# Altium schematic symbol library Schematic_Library.SchLib: 59 symbols
Pins are listed as number, name and electrical type; pins without a type are passive.

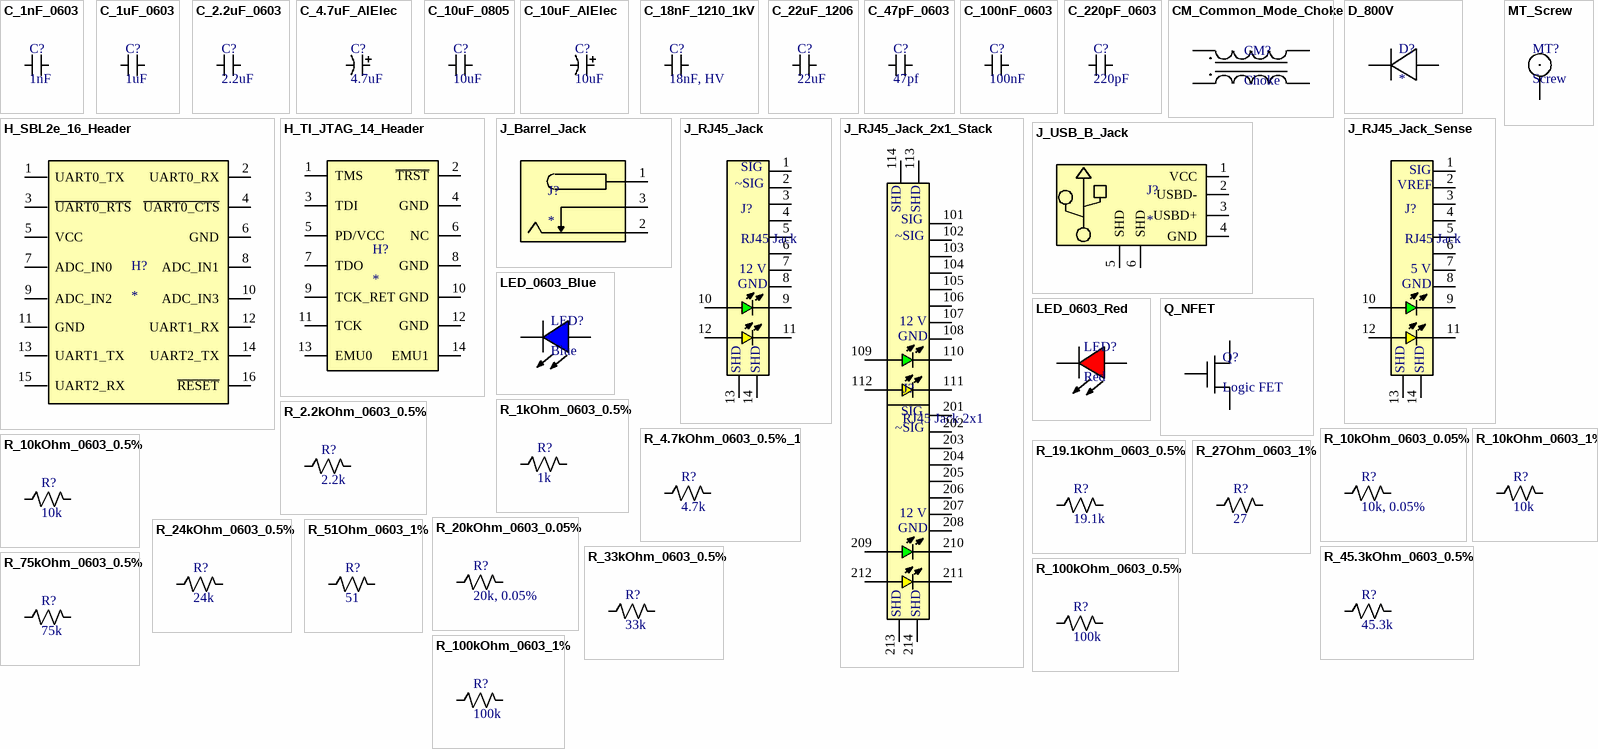
[diagram p0: symbols C_1nF_0603 to R_100kOhm_0603_1%]

## C_1nF_0603
designator C?, comment 1nF
Capacitor SMD MLCC 1 nF 0603
footprint 0603_CAP (SMD 0603 Capacitor Footprint)
pins: 1, 2

## C_1uF_0603
designator C?, comment 1uF
Capacitor SMD MLCC 1 uF 0603 25 V
footprint 0603_CAP (SMD 0603 Capacitor Footprint)
pins: 1, 2

## C_2.2uF_0603
designator C?, comment 2.2uF
Capacitor SMD MLCC 2.2 uF 0603
footprint 0603_CAP (SMD 0603 Capacitor Footprint)
pins: 1, 2

## C_4.7uF_AlElec
designator C?, comment 4.7uF
Capacitor SMD Aluminum Electrolytic 4.7 uF
footprint ALUM_CAP (25 V Aluminum Electrolytic Cap)
pins: 1, 2

## C_10uF_0805
designator C?, comment 10uF
Capacitor SMD MLCC 10 uF 0805
footprint 0805_CAP (SMD 0805 Capacitor Footprint)
pins: 1, 2

## C_10uF_AlElec
designator C?, comment 10uF
Capacitor SMD Aluminum Electrolytic 10 uF
footprint ALUM_CAP (25 V Aluminum Electrolytic Cap)
pins: 1, 2

## C_18nF_1210_1kV
designator C?, comment 18nF, HV
Capacitor SMD MLCC C0G 18 nF 1 kV 1210
footprint 1210_CAP (1210 SMD Capacitor Footprint)
pins: 1, 2

## C_22uF_1206
designator C?, comment 22uF
Capacitor SMD MLCC 22 uF 25 V 1206
footprint 1206_CAP (1206 SMD Capacitor Footprint)
pins: 1, 2

## C_47pF_0603
designator C?, comment 47pf
Capacitor SMD MLCC 47 pF 0603
footprint 0603_CAP (SMD 0603 Capacitor Footprint)
pins: 1, 2

## C_100nF_0603
designator C?, comment 100nF
Capacitor SMD MLCC 100 nF 0603
footprint 0603_CAP (SMD 0603 Capacitor Footprint)
pins: 1, 2

## C_220pF_0603
designator C?, comment 220pF
Capacitor SMD MLCC 220 pF 0603 5%
footprint 0603_CAP (SMD 0603 Capacitor Footprint)
pins: 1, 2

## CM_Common_Mode_Choke
designator CM?, comment Choke
Common Mode Choke
footprint CHOKE (Common Mode Choke Footprint Horizontal 4)
pins: 1 In1, 2 Out1, 3 Out2, 4 In2

## D_800V
designator D?
Diode 800 V 8 A diode
footprint DIODE (Power Diode Footprint TO-252-2)
pins: 1, 2

## H_SBL2e_16_Header
designator H?
16-pin SBL2e Netburner Header
footprint 16PIN_HEADER (16-Pin SBL2e NetBurner Header Footprint)
pins: 1 UART0_TX, 2 UART0_RX, 3 ~{UART0_RTS}, 4 ~{UART0_CTS}, 5 VCC, 6 GND, 7 ADC_IN0, 8 ADC_IN1, 9 ADC_IN2, 10 ADC_IN3, 11 GND, 12 UART1_RX, 13 UART1_TX, 14 UART2_TX, 15 UART2_RX, 16 ~{RESET}

## H_TI_JTAG_14_Header
designator H?
14-pin TI JTAG Header
footprint 14PIN_HEADER (14-Pin TI JTAG Header Footprint)
pins: 1 TMS, 2 ~{TRST}, 3 TDI, 4 GND, 5 PD/VCC, 6 NC, 7 TDO, 8 GND, 9 TCK_RET, 10 GND, 11 TCK, 12 GND, 13 EMU0, 14 EMU1

## J_Barrel_Jack
designator J?
Jack 12 V Barrel Jack Power Plug
footprint PWR_JACK (Barrel Jack Footprint)
pins: 1 GND, 2 PWR_JACK, 3 PWR_BAT

## J_RJ45_Jack
designator J?, comment RJ45 Jack
Jack RJ-45 8-pin
footprint RJ45_JACK (RJ45 Jack Footprint)
pins: 1 Sig1, 2 Sig2, 3 NC, 4 NC, 5 NC, 6 NC, 7 12 V, 8 GND, 9   , 10   , 11  , 12  , 13 SHD1, 14 SHD2
text: SIG; ~SIG; SHD

## J_RJ45_Jack_2x1_Stack
designator J?, comment RJ45 Jack 2x1
Jack RJ-45 8-pin 2x1 Stack
footprint RJ45_JACK_STACKED (RJ45 Jack 2x1 Stacked Footprint)
pins: 101 Sig1, 102 Sig2, 103 NC, 104 NC, 105 NC, 106 NC, 107 12 V, 108 GND, 109   , 110   , 111  , 112  , 113 SHD1, 114 SHD2, 201 Sig1, 202 Sig2, 203 NC, 204 NC, 205 NC, 206 NC, 207 12 V, 208 GND, 209   , 210   , 211  , 212  , 213 SHD1, 214 SHD2
text: SHD; SIG; ~SIG

## J_RJ45_Jack_Sense
designator J?, comment RJ45 Jack
Jack RJ-45 8-pin (for current sensing)
footprint RJ45_JACK (RJ45 Jack Footprint)
pins: 1 Sig1, 2 VREF, 3 NC, 4 NC, 5 NC, 6 NC, 7 12 V, 8 GND, 9   , 10   , 11  , 12  , 13 SHD1, 14 SHD2
text: SIG; 5 V; SHD

## J_USB_B_Jack
designator J?
Jack USB Type B
footprint USB_B_JACK (USB Type B Jack Footprint)
pins: 1 VCC, 2 USBD-, 3 USBD+, 4 GND, 5 SHD, 6 SHD

## LED_0603_Blue
designator LED?, comment Blue
LED SMD 0603 Blue
footprint 0603_LED (SMD 0603 LED Footprint)
pins: 1, 2

## LED_0603_Red
designator LED?, comment Red
LED SMD 0603 Red
footprint 0603_LED (SMD 0603 LED Footprint)
pins: 1, 2

## MT_Screw
designator MT?, comment Screw
Screw Mount for connecting board to resistors
footprint MOUNT (Screw Mount Footprint)
pins: 1

## Q_NFET
designator Q?, comment Logic FET
N-Channel Logic FET SOT23-3
footprint SOT23 (SOT23 Footprint)
pins: 1 D, 2 G, 3 S

## R_1kOhm_0603_0.5%
designator R?, comment 1k
Resistor 1 kOhm 0603 0.5%
footprint 0603_RES (SMD 0603 Resistor Footprint)
pins: 1, 2

## R_2.2kOhm_0603_0.5%
designator R?, comment 2.2k
Resistor 2.2 kOhm 0603 0.5%
footprint 0603_RES (SMD 0603 Resistor Footprint)
pins: 1, 2

## R_4.7kOhm_0603_0.5%_1
designator R?, comment 4.7k
Resistor 4.7k kOhm 0603 0.5%
footprint 0603_RES (SMD 0603 Resistor Footprint)
pins: 1, 2

## R_10kOhm_0603_0.05%
designator R?, comment 10k, 0.05%
Resistor 10 kOhm 0603 0.05%
footprint 0603_RES (SMD 0603 Resistor Footprint)
pins: 1, 2

## R_10kOhm_0603_0.5%
designator R?, comment 10k
Resistor 10 kOhm 0603 0.5%
footprint 0603_RES (SMD 0603 Resistor Footprint)
pins: 1, 2

## R_10kOhm_0603_1%
designator R?, comment 10k
Resistor 10 kOhm 0603 1%
footprint 0603_RES (SMD 0603 Resistor Footprint)
pins: 1, 2

## R_19.1kOhm_0603_0.5%
designator R?, comment 19.1k
Resistor 19.1 kOhm 0603 0.5%
footprint 0603_RES (SMD 0603 Resistor Footprint)
pins: 1, 2

## R_20kOhm_0603_0.05%
designator R?, comment 20k, 0.05%
Resistor 20 kOhm 0603 0.05%
footprint 0603_RES (SMD 0603 Resistor Footprint)
pins: 1, 2

## R_24kOhm_0603_0.5%
designator R?, comment 24k
Resistor 24 kOhm 0603 0.5%
footprint 0603_RES (SMD 0603 Resistor Footprint)
pins: 1, 2

## R_27Ohm_0603_1%
designator R?, comment 27
Resistor 27 Ohm 0603 1%
footprint 0603_RES (SMD 0603 Resistor Footprint)
pins: 1, 2

## R_33kOhm_0603_0.5%
designator R?, comment 33k
Resistor 33 kOhm 0603 0.5%
footprint 0603_RES (SMD 0603 Resistor Footprint)
pins: 1, 2

## R_45.3kOhm_0603_0.5%
designator R?, comment 45.3k
Resistor 45.3 kOhm 0603 0.5%
footprint 0603_RES (SMD 0603 Resistor Footprint)
pins: 1, 2

## R_51Ohm_0603_1%
designator R?, comment 51
Resistor 51 Ohm 0603 1%
footprint 0603_RES (SMD 0603 Resistor Footprint)
pins: 1, 2

## R_75kOhm_0603_0.5%
designator R?, comment 75k
Resistor 75 kOhm 0603 0.5%
footprint 0603_RES (SMD 0603 Resistor Footprint)
pins: 1, 2

## R_100kOhm_0603_0.5%
designator R?, comment 100k
Resistor 100 kOhm 0603 0.5%
footprint 0603_RES (SMD 0603 Resistor Footprint)
pins: 1, 2

## R_100kOhm_0603_1%
designator R?, comment 100k
Resistor 100 kOhm 0603 1%
footprint 0603_RES (SMD 0603 Resistor Footprint)
pins: 1, 2

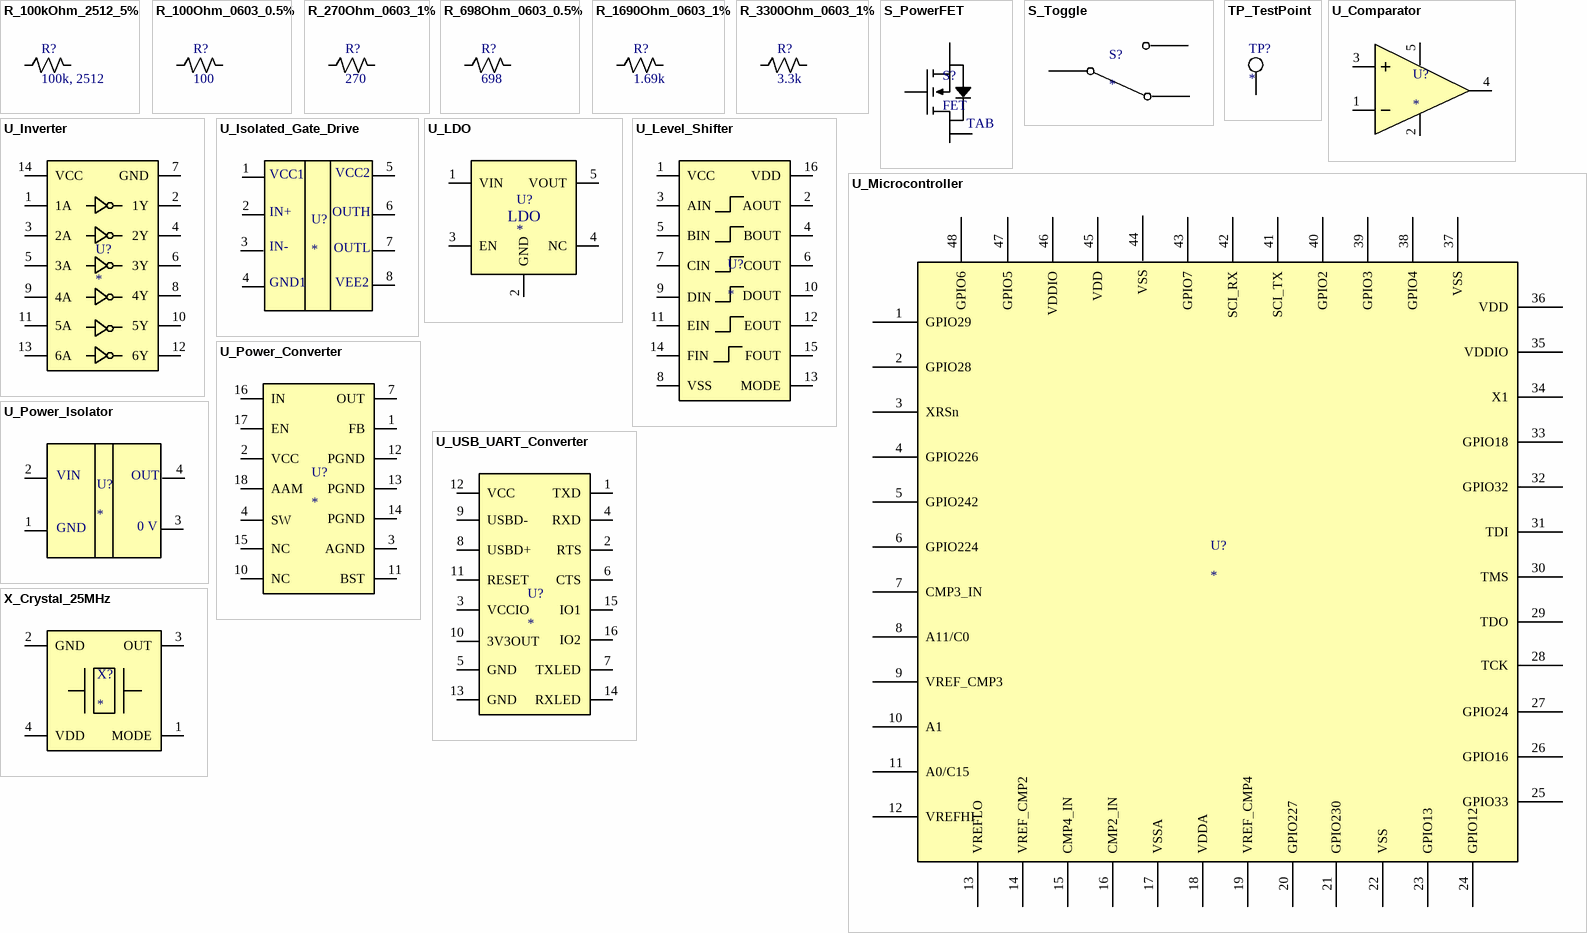
[diagram p1: symbols R_100kOhm_2512_5% to X_Crystal_25MHz]

## R_100kOhm_2512_5%
designator R?, comment 100k, 2512
Resistor 100 kOhm 2512 5%
footprint 2512_RES (2512 Resistor Footprint)
pins: 1, 2

## R_100Ohm_0603_0.5%
designator R?, comment 100
Resistor 100 Ohm 0603 0.5%
footprint 0603_RES (SMD 0603 Resistor Footprint)
pins: 1, 2

## R_270Ohm_0603_1%
designator R?, comment 270
Resistor 270 Ohm 0603 1%
footprint 0603_RES (SMD 0603 Resistor Footprint)
pins: 1, 2

## R_698Ohm_0603_0.5%
designator R?, comment 698
Resistor 698 Ohm 0603 0.5%
footprint 0603_RES (SMD 0603 Resistor Footprint)
pins: 1, 2

## R_1690Ohm_0603_1%
designator R?, comment 1.69k
Resistor 1.69 kOhm 0603 1%
footprint 0603_RES (SMD 0603 Resistor Footprint)
pins: 1, 2

## R_3300Ohm_0603_1%
designator R?, comment 3.3k
Resistor 3.3 kOhm 0603 1%
footprint 0603_RES (SMD 0603 Resistor Footprint)
pins: 1, 2

## S_PowerFET
designator S?, comment FET
N-Channel Power FET 650 V 24 A
footprint FET (Power FET Footprint)
pins: 1 G, 2 D, 3 S, 4 TAB

## S_Toggle
designator S?
Switch Toggle
footprint TOGGLE (Toggle Switch Footprint)
pins: 1, 2, 3

## TP_TestPoint
designator TP?
Test Point 0603
footprint 0603_TP (0603 Test Point Footprint)
pins: 1 Sig

## U_Comparator
designator U?
IC Comparator 36 V 300 ns Response Open-Collector
footprint SOT25 (SOT25 Footprint)
pins: 1 V-, 2 GND, 3 V+, 4 Out, 5 VDD

## U_Inverter
designator U?
IC 6-in-1 inverter
footprint INVERTER (6-in-1 Inverter TSSOP-14 Footprint)
pins: 1 1A, 2 1Y, 3 2A, 4 2Y, 5 3A, 6 3Y, 7 GND, 8 4Y, 9 4A, 10 5Y, 11 5A, 12 6Y, 13 6A, 14 VCC

## U_Isolated_Gate_Drive
designator U?
IC Isolated Gate Drive 3-15 V Output Supply Split Output
footprint GATE_DRIVER (Isolated Gate Driver Footprint 8-SOIC)
pins: 1 VCC1, 2 IN+, 3 IN-, 4 GND1, 5 VCC2, 6 OUTH, 7 OUTL, 8 VEE2

## U_LDO
designator U?
IC 2.5 V LDO
footprint SOT25 (SOT25 Footprint)
pins: 1 VIN, 2 GND, 3 EN, 4 NC, 5 VOUT
text: LDO

## U_Level_Shifter
designator U?
IC 6-in-1 level shifter
footprint TSSOP-16 (TSSOP-16 Footprint)
pins: 1 VCC, 2 AOUT, 3 AIN, 4 BOUT, 5 BIN, 6 COUT, 7 CIN, 8 VSS, 9 DIN, 10 DOUT, 11 EIN, 12 EOUT, 13 MODE, 14 FIN, 15 FOUT, 16 VDD

## U_Microcontroller
designator U?
IC TI C2000 Microcontroller, 48-pin LQFP
footprint MICROCONTROLLER (LQFP-48 Microcontroller Footprint)
pins: 1 GPIO29, 2 GPIO28, 3 XRSn, 4 GPIO226, 5 GPIO242, 6 GPIO224, 7 CMP3_IN, 8 A11/C0, 9 VREF_CMP3, 10 A1, 11 A0/C15, 12 VREFHI, 13 VREFLO, 14 VREF_CMP2, 15 CMP4_IN, 16 CMP2_IN, 17 VSSA, 18 VDDA, 19 VREF_CMP4, 20 GPIO227, 21 GPIO230, 22 VSS, 23 GPIO13, 24 GPIO12, 25 GPIO33, 26 GPIO16, 27 GPIO24, 28 TCK, 29 TDO, 30 TMS, 31 TDI, 32 GPIO32, 33 GPIO18, 34 X1, 35 VDDIO, 36 VDD, 37 VSS, 38 GPIO4, 39 GPIO3, 40 GPIO2, 41 SCI_TX, 42 SCI_RX, 43 GPIO7, 44 VSS, 45 VDD, 46 VDDIO, 47 GPIO5, 48 GPIO6

## U_Power_Converter
designator U?
IC 12 V to 5V/3.3V switching power converter
footprint PWR_CONVERTER (Power Converter 12 - 5/3.3 V QFN-20 3 x 5 mm Footprint)
pins: 1 FB, 2 VCC, 3 AGND, 4 SW, 7 OUT, 10 NC, 11 BST, 12 PGND, 13 PGND, 14 PGND, 15 NC, 16 IN, 17 EN, 18 AAM

## U_Power_Isolator
designator U?
IC Power Isolator 12V-12V DC-DC Converter
footprint PWR_ISOLATOR (Power Isolator Footprint)
pins: 1 GND, 2 Vin, 3 0V, 4 Out
text: VIN; OUT; 0 V

## U_USB_UART_Converter
designator U?
FTDI USB to UART Converter TSSOP-16 FT230-XS
footprint TSSOP-16 (TSSOP-16 Footprint)
pins: 1 TXD, 2 RTS, 3 VCCIO, 4 RXD, 5 GND, 6 CTS, 7 TXLED, 8 USBD+, 9 USBD-, 10 3V3OUT, 11 RESET, 12 VCC, 13 GND, 14 RXLED, 15 IO1, 16 IO2

## X_Crystal_25MHz
designator X?
Crystal Oscillator 25 MHz 3.3 V
footprint CRYSTAL (Crystal Oscillator Footprint)
pins: 1 MODE, 2 GND, 3 OUT, 4 VDD